# EAGLE library part MSTBA6 (library con-phoenix-508)
PHOENIX
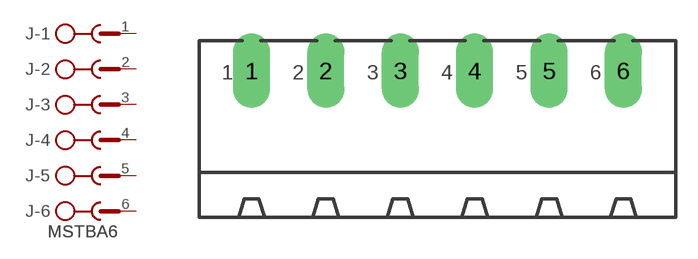
[diagram p49: symbol with the pads of MSTBA6; footprint MSTBA6]

Designator prefix J; gates -1=SK -2=SK -3=SK -4=SK -5=SK -6=SKV

## MSTBA6  [MSTBA6]
1  -1:1  pas
2  -2:1  pas
3  -3:1  pas
4  -4:1  pas
5  -5:1  pas
6  -6:1  pas

## Footprint MSTBA6 (pad centres in mm)
PHOENIX
drill 1.422 pad 2.54 long: 1 -12.7,5.08; 2 -7.62,5.08; 3 -2.54,5.08; 4 2.54,5.08; 5 7.62,5.08; 6 12.7,5.08